# EAGLE library part 53L0-SATEL-I1 (library lib_stankus)
53L0-SATEL-I1
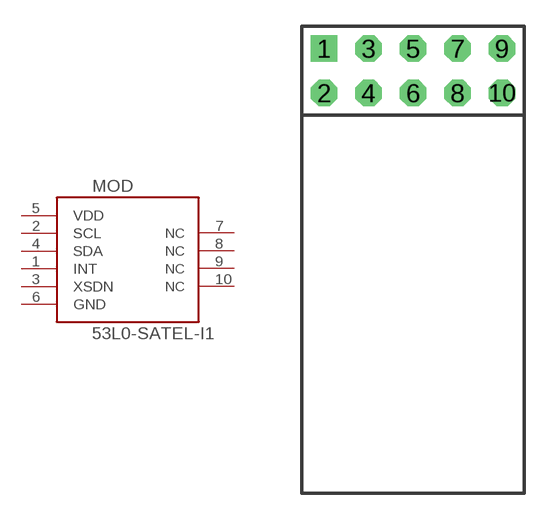
[diagram p110: symbol with the pads of 53L0-SATEL-I1; footprint 53L0-SATEL-I1]

Designator prefix MOD

## 53L0-SATEL-I1  [53L0-SATEL-I1]
1  INT  pas
2  SCL  pas
3  XSDN  pas
4  SDA  pas
5  VDD  pas
6  GND  pas
7  NC  nc
8  NC  nc
9  NC  nc
10  NC  nc

## Footprint 53L0-SATEL-I1 (pad centres in mm)
53L0-SATEL-I1
drill 1 square: 1 -5.08,1.27
drill 1 octagon: 2 -5.08,-1.27; 3 -2.54,1.27; 4 -2.54,-1.27; 5 0,1.27; 6 0,-1.27; 7 2.54,1.27; 8 2.54,-1.27; 9 5.08,1.27; 10 5.08,-1.27